# Altium schematic symbol library 1-2199298-9.SchLib: 1 symbol
Pins are listed as number, name and electrical type; pins without a type are passive.

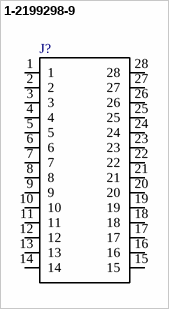
[diagram p0: symbol 1-2199298-9]

## 1-2199298-9
designator J?  (value not drawn)
/ 28P,DIP SKT,300 CL,LDR,PB FREE /; Product_Type: Socket; Number_of_Positions: 28; MF: TE Connectivity; Centerline_Pitch: 2.54 mm[.1 in]; TE_purchase_URL: https://www.te.com/usa-en/product-1-2199298-9.html?te_bu=Cor&te_type=disp&te_campaign=seda_glo_cor-seda-global-disp-prtnr-fy19-seda-model-bom-cta_sma-317_1&elqCampaignId=32493; EU_RoHS_Compliance: Compliant; SnapEDA_Link: https://www.snapeda.com/parts/1-2199298-9/TE%20Connectivity%20AMP%20Connectors/view-part/1265789/?ref=snap; MP: 1-2199298-9; Digi-Key_Purchase_URL: https://www.digikey.com/product-detail/en/te-connectivity-amp-connectors/1-2199298-9/A120353-ND/5022045?utm_source=snapeda&utm_medium=aggregator&utm_campaign=symbol; Digi-Key_Part_Number: A120353-ND; Package: PDIP-28 TE Connectivity; Value: *
footprint *DIP762W60P254L3556H510Q28
pins: 1, 2, 3, 4, 5, 6, 7, 8, 9, 10, 11, 12, 13, 14, 15, 16, 17, 18, 19, 20, 21, 22, 23, 24, 25, 26, 27, 28